# Altium footprint library PBL4_GR4_PcbLib.PcbLib: 35 footprints (part 2 of 3)
Each footprint in its own frame and in the unit in brackets; x right, y up, seen from the top. Pads: shape width x height; smd on the part's side, far side on the other; paste and mask are expansions set on the pad; w line width, h text height; cw(c..) or ccw(c..) is an arc to the next point about the centre after c.
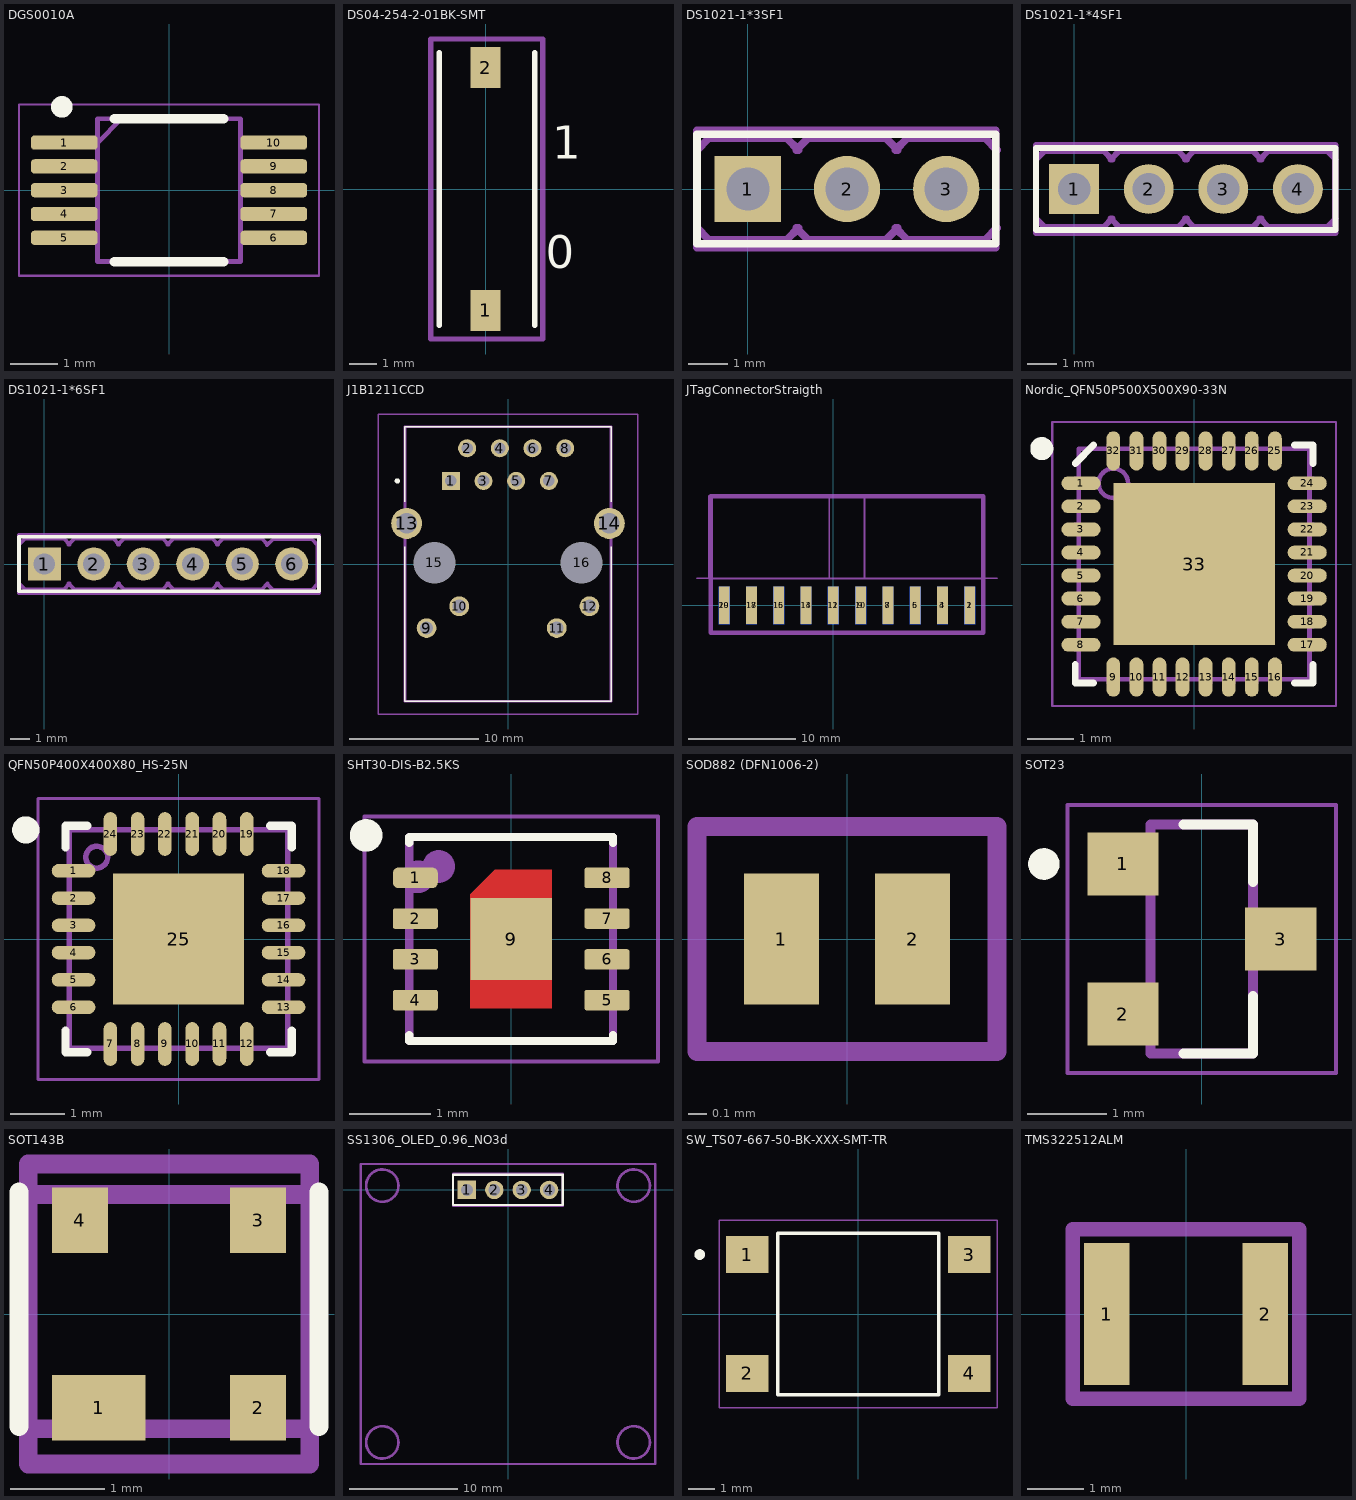
[diagram p1: the footprints below, top view; thin cyan lines are the x and y axes]

## DGS0010A [mm]
pads (10):
  rrect50% 1.4x0.3 smd: 1(-2.2,1) 2(-2.2,0.5) 3(-2.2,0) 4(-2.2,-0.5) 5(-2.2,-1) 6(2.2,-1) 7(2.2,-0.5) 8(2.2,0) 9(2.2,0.5) 10(2.2,1)
Top Overlay:
  circle w0.254: c-2.25,1.75 r0.1
  lines w0.2: -1.15,-1.5 1.15,-1.5 ; -1.15,1.5 1.15,1.5
Top Component Outline:
  lines w0.1: -1.5,1 -1,1.5 ; -1.5,-1.5 1.5,-1.5 1.5,1.5 -1.5,1.5 -1.5,-1.5
Top Assembly:
  lines w0.05: -3.15,-1.8 3.15,-1.8 3.15,1.8 -3.15,1.8 -3.15,-1.8
  text ".Designator" at -1.746,-0.596 h1.2
3D body "TMUX1072DGSR.stp": height 1.1, standoff 0, extent -2.463,-1.5 2.463,1.5

## DS04-254-2-01BK-SMT [mm] "1 Position, Surface Mount, 2.54 mm Pitch, Flat Slide Actuator, Flat Bottom, SMT Pin, DIP Switch"
pads (2):
  rect 1.1x1.5 smd: 1(0,-4.45) 2(0,4.45)
Top Overlay:
  lines w0.2: -1.7,-5 -1.7,5 ; 1.8,-5 1.8,5
  text "0" at 2.2,-2.9 h1.2
  text "1" at 2.45,1.1 h1.2
Top Assembly:
  lines w0.2: -2,-5.5 2.1,-5.5 2.1,5.5 -2,5.5 -2,-5.5
  text ".Designator" at 0.8,-1 h1.5
3D body "CUI_DEVICES_DS04-254-2-01BK-SMT.step": height 3.99, standoff -0.01, extent -1.715,-4.95 1.825,4.95

## DS1021-1*3SF1 [mm]
pads (3):
  rect 1.7x1.7 / inner rect 1.7x1.7 / far side rect 1.7x2.4 hole 1.1: 1(0,0)
  round 1.7 / inner round 1.7 / far side oval 1.7x2.4 hole 1.1: 2(2.54,0) 3(5.08,0)
Top Overlay:
  lines w0.2: -1.3,-1.4 -1.3,1.4 6.35,1.4 6.35,-1.4 -1.3,-1.4
Top Assembly:
  lines w0.2: -1.3,-1.5 6.35,-1.5 6.35,1.5 -1.3,1.5 -1.3,-1.5
  text ".Designator" at 1.27,-1.03 h2
  text "1" at -0.5,-0.8 h1.2
Additional Info:
  lines w0.2: 1.24,-1 1.54,-1.3 3.54,-1.3 3.84,-1 ; 1.24,1 1.54,1.3 3.54,1.3 3.84,1 ; 1.3,-1 1,-1.3 -1,-1.3 -1.3,-1 -1.3,1 -1,1.3 1,1.3 1.3,1 ; 3.78,-1 4.08,-1.3 6.08,-1.3 6.38,-1 ; 3.78,1 4.08,1.3 6.08,1.3 6.38,1 ; 6.35,-0.97 6.35,1.03
3D body "PLS-1.step": height 8.54, standoff -2.9, extent 3.81,-1.27 6.35,1.27
3D body "PLS-1.step": height 8.54, standoff -2.9, extent 1.27,-1.27 3.81,1.27
3D body "PLS-1.step": height 8.54, standoff -2.9, extent -1.27,-1.27 1.27,1.27

## DS1021-1*4SF1 [mm]
pads (4):
  rect 1.7x1.7 / inner rect 1.7x1.7 / far side rect 1.7x2.4 hole 1.1: 1(0,0)
  round 1.7 / inner round 1.7 / far side oval 1.7x2.4 hole 1.1: 2(2.54,0) 3(5.08,0) 4(7.62,0)
Top Overlay:
  lines w0.2: 8.89,1.4 -1.3,1.4 -1.3,-1.4 8.9,-1.4 8.9,1.4
Top Assembly:
  lines w0.2: -1.3,-1.5 8.9,-1.5 8.9,1.5 -1.3,1.5 -1.3,-1.5
  text ".Designator" at 2.225,-0.9 h2
  text "1" at -0.5,-0.8 h1.2
Additional Info:
  lines w0.2: 1.24,-1 1.54,-1.3 3.54,-1.3 3.84,-1 ; 1.24,1 1.54,1.3 3.54,1.3 3.84,1 ; 1.3,-1 1,-1.3 -1,-1.3 -1.3,-1 -1.3,1 -1,1.3 1,1.3 1.3,1 ; 3.78,-1 4.08,-1.3 6.08,-1.3 6.38,-1 ; 3.78,1 4.08,1.3 6.08,1.3 6.38,1 ; 6.32,-1 6.62,-1.3 8.62,-1.3 8.92,-1 ; 6.32,1 6.62,1.3 8.62,1.3 8.92,1 ; 8.885,-1 8.885,1
3D body "PLS-1.step": height 8.54, standoff -2.9, extent 6.35,-1.27 8.89,1.27
3D body "PLS-1.step": height 8.54, standoff -2.9, extent 3.81,-1.27 6.35,1.27
3D body "PLS-1.step": height 8.54, standoff -2.9, extent 1.27,-1.27 3.81,1.27
3D body "PLS-1.step": height 8.54, standoff -2.9, extent -1.27,-1.27 1.27,1.27

## DS1021-1*6SF1 [mm]
pads (6):
  rect 1.7x1.7 / inner rect 1.7x1.7 / far side rect 1.7x2.4 hole 1.1: 1(0,0)
  round 1.7 / inner round 1.7 / far side oval 1.7x2.4 hole 1.1: 2(2.54,0) 3(5.08,0) 4(7.62,0) 5(10.16,0) 6(12.7,0)
Top Overlay:
  lines w0.2: -1.3,-1.4 14.097,-1.4 14.097,1.4 -1.3,1.4 -1.3,-1.4
Top Assembly:
  lines w0.2: -1.3,-1.5 -1.3,1.5 14.097,1.5 14.097,-1.5 -1.3,-1.5
  text "1" at -0.5,-0.8 h1.2
  text ".Designator" at 3.8,-0.9 h2
Additional Info:
  lines w0.2: 1.24,-1 1.54,-1.3 3.54,-1.3 3.84,-1 ; 1.24,1 1.54,1.3 3.54,1.3 3.84,1 ; 1.3,-1 1,-1.3 -1,-1.3 -1.3,-1 -1.3,1 -1,1.3 1,1.3 1.3,1 ; 3.78,-1 4.08,-1.3 6.08,-1.3 6.38,-1 ; 3.78,1 4.08,1.3 6.08,1.3 6.38,1 ; 6.32,-1 6.62,-1.3 8.62,-1.3 8.92,-1 ; 6.32,1 6.62,1.3 8.62,1.3 8.92,1 ; 8.86,-1 9.16,-1.3 11.16,-1.3 11.46,-1 ; 8.86,1 9.16,1.3 11.16,1.3 11.46,1 ; 11.43,-1.03 11.73,-1.33 13.73,-1.33 14.03,-1.03 14.03,0.97 13.73,1.27 11.73,1.27 11.43,0.97
3D body "PLS-1.step": height 8.54, standoff -2.9, extent 11.43,-1.27 13.97,1.27
3D body "PLS-1.step": height 8.54, standoff -2.9, extent -1.27,-1.27 1.27,1.27
3D body "PLS-1.step": height 8.54, standoff -2.9, extent 1.27,-1.27 3.81,1.27
3D body "PLS-1.step": height 8.54, standoff -2.9, extent 3.81,-1.27 6.35,1.27
3D body "PLS-1.step": height 8.54, standoff -2.9, extent 6.35,-1.27 8.89,1.27
3D body "PLS-1.step": height 8.54, standoff -2.9, extent 8.89,-1.27 11.43,1.27

## J1B1211CCD [mm]
height 13.35
pads (16):
  rect 1.4x1.4 hole 0.9: 1(-4.445,6.45)
  round 1.4 hole 0.9: 2(-3.175,8.99) 3(-1.905,6.45) 4(-0.635,8.99) 5(0.635,6.45) 6(1.905,8.99) 7(3.175,6.45) 8(4.445,8.99)
  round 1.53 hole 1.02: 9(-6.325,-4.98) 10(-3.785,-3.28) 11(3.785,-4.98) 12(6.325,-3.28)
  round 2.4 hole 1.6: 13(-7.875,3.15) 14(7.875,3.15)
  round 1.625 hole 3.25 unplated: 15(-5.715,0.1) 16(5.715,0.1)
Top Overlay:
  lines w0.1: -8,1.35 -8,-10.65 8,-10.65 8,1.35 ; -8,4.85 -8,10.65 8,10.65 8,4.85
  lines w0.2: -8.6,6.35 ccw(c-8.6,6.45) -8.6,6.55 ccw(c-8.6,6.45) -8.6,6.35
Top Component Outline:
  lines w0.2: -8,-10.65 -8,10.65 8,10.65 8,-10.65 -8,-10.65
Top Assembly:
  lines w0.1: -10.075,-11.65 -10.075,11.65 10.075,11.65 10.075,-11.65 -10.075,-11.65
3D body "J1B1211CCD.stp": height 14.93, standoff -3.86, extent -9.534,-10.566 9.454,10.71

## JTagConnectorStraigth [mm]
pads (20):
  rect 1x3.5 smd: 1(12.7,0) 3(10.16,0) 5(7.62,0) 7(5.08,0) 9(2.54,0) 11(0,0) 13(-2.54,0) 15(-5.08,0) 17(-7.62,0) 19(-10.16,0)
  rect 1x3.5 smd far side: 2(12.7,0) 4(10.16,0) 6(7.62,0) 8(5.08,0) 10(2.54,0) 12(0,0) 14(-2.54,0) 16(-5.08,0) 18(-7.62,0) 20(-10.16,0)
Top Assembly:
  lines w0.4: -11.43,-2.54 -11.43,10.16 13.97,10.16 13.97,-2.54 -11.43,-2.54
  text ".Designator" at -1.27,5.08 h1.5
Additional Info:
  lines w0.15: -11.6,2.5 -11.6,10.2 14.1,10.2 14.1,2.5 -11.6,2.5 ; -0.401,2.5 2.901,2.5 2.901,10.25 -0.401,10.25 -0.401,2.5
Mechanical 15:
  lines w0.15: -12.7,2.54 15.24,2.54
  text "Connector outsied the board.  / Use at lest 1.6 mm thick board" at -11.43,3.81 h1.5
3D body "User Library-Header 2x10 2_54mm.step": height 1.7, standoff -3.3, extent -11.58,-0.94 14.12,10.16

## Nordic_QFN50P500X500X90-33N [mm]
pads (33):
  oval 0.85x0.3 smd mask+0.076: 1(-2.45,1.75) 2(-2.45,1.25) 3(-2.45,0.75) 4(-2.45,0.25) 5(-2.45,-0.25) 6(-2.45,-0.75) 7(-2.45,-1.25) 8(-2.45,-1.75) 17(2.45,-1.75) 18(2.45,-1.25) 19(2.45,-0.75) 20(2.45,-0.25) 21(2.45,0.25) 22(2.45,0.75) 23(2.45,1.25) 24(2.45,1.75)
  oval 0.3x0.85 smd mask+0.076: 9(-1.75,-2.45) 10(-1.25,-2.45) 11(-0.75,-2.45) 12(-0.25,-2.45) 13(0.25,-2.45) 14(0.75,-2.45) 15(1.25,-2.45) 16(1.75,-2.45) 25(1.75,2.45) 26(1.25,2.45) 27(0.75,2.45) 28(0.25,2.45) 29(-0.25,2.45) 30(-0.75,2.45) 31(-1.25,2.45) 32(-1.75,2.45)
  rect 3.5x3.5 smd: 33(0,0)
Top Overlay:
  circle w0.25: c-3.3,2.5 r0.125
  lines w0.15: -2.575,-2.175 -2.575,-2.575 -2.175,-2.575 ; -2.575,2.175 -2.175,2.575 ; 2.175,-2.575 2.575,-2.575 2.575,-2.175 ; 2.175,2.575 2.575,2.575 2.575,2.175
Top Component Outline:
  circle w0.1: c-1.75,1.75 r0.32
  lines w0.1: -2.5,-1.845 -2.571,-1.845 cw(c-2.571,-1.75) -2.571,-1.655 -2.5,-1.655 ; -2.5,-1.345 -2.571,-1.345 cw(c-2.571,-1.25) -2.571,-1.155 -2.5,-1.155 ; -2.5,-0.845 -2.571,-0.845 cw(c-2.571,-0.75) -2.571,-0.655 -2.5,-0.655 ; -2.5,-0.345 -2.571,-0.345 cw(c-2.571,-0.25) -2.571,-0.155 -2.5,-0.155 ; -2.5,0.155 -2.571,0.155 cw(c-2.571,0.25) -2.571,0.345 -2.5,0.345 ; -2.5,0.655 -2.571,0.655 cw(c-2.571,0.75) -2.571,0.845 -2.5,0.845 ; -2.5,1.155 -2.571,1.155 cw(c-2.571,1.25) -2.571,1.345 -2.5,1.345 ; -2.5,1.655 -2.571,1.655 cw(c-2.571,1.75) -2.571,1.845 -2.5,1.845 ; -1.845,-2.5 -1.845,-2.571 ccw(c-1.75,-2.571) -1.655,-2.571 -1.655,-2.5 ; -1.845,2.5 -1.845,2.571 cw(c-1.75,2.571) -1.655,2.571 -1.655,2.5 ; -1.345,-2.5 -1.345,-2.571 ccw(c-1.25,-2.571) -1.155,-2.571 -1.155,-2.5 ; -1.345,2.5 -1.345,2.571 cw(c-1.25,2.571) -1.155,2.571 -1.155,2.5 ; -0.845,-2.5 -0.845,-2.571 ccw(c-0.75,-2.571) -0.655,-2.571 -0.655,-2.5 ; -0.845,2.5 -0.845,2.571 cw(c-0.75,2.571) -0.655,2.571 -0.655,2.5 ; -0.345,-2.5 -0.345,-2.571 ccw(c-0.25,-2.571) -0.155,-2.571 -0.155,-2.5 ; -0.345,2.5 -0.345,2.571 cw(c-0.25,2.571) -0.155,2.571 -0.155,2.5 ; 0.155,-2.5 0.155,-2.571 ccw(c0.25,-2.571) 0.345,-2.571 0.345,-2.5 ; 0.155,2.5 0.155,2.571 cw(c0.25,2.571) 0.345,2.571 0.345,2.5 ; 0.655,-2.5 0.655,-2.571 ccw(c0.75,-2.571) 0.845,-2.571 0.845,-2.5 ; 0.655,2.5 0.655,2.571 cw(c0.75,2.571) 0.845,2.571 0.845,2.5 ; 1.155,-2.5 1.155,-2.571 ccw(c1.25,-2.571) 1.345,-2.571 1.345,-2.5 ; 1.155,2.5 1.155,2.571 cw(c1.25,2.571) 1.345,2.571 1.345,2.5 ; 1.655,-2.5 1.655,-2.571 ccw(c1.75,-2.571) 1.845,-2.571 1.845,-2.5 ; 1.655,2.5 1.655,2.571 cw(c1.75,2.571) 1.845,2.571 1.845,2.5 ; 2.5,-1.845 2.571,-1.845 ccw(c2.571,-1.75) 2.571,-1.655 2.5,-1.655 ; 2.5,-1.345 2.571,-1.345 ccw(c2.571,-1.25) 2.571,-1.155 2.5,-1.155 ; 2.5,-0.845 2.571,-0.845 ccw(c2.571,-0.75) 2.571,-0.655 2.5,-0.655 ; 2.5,-0.345 2.571,-0.345 ccw(c2.571,-0.25) 2.571,-0.155 2.5,-0.155 ; 2.5,0.155 2.571,0.155 ccw(c2.571,0.25) 2.571,0.345 2.5,0.345 ; 2.5,0.655 2.571,0.655 ccw(c2.571,0.75) 2.571,0.845 2.5,0.845 ; 2.5,1.155 2.571,1.155 ccw(c2.571,1.25) 2.571,1.345 2.5,1.345 ; 2.5,1.655 2.571,1.655 ccw(c2.571,1.75) 2.571,1.845 2.5,1.845 ; -2.5,-2.5 -2.5,2.5 2.5,2.5 2.5,-2.5 -2.5,-2.5
Top Assembly:
  lines w0.05: -3.075,-3.075 3.075,-3.075 3.075,3.075 -3.075,3.075 -3.075,-3.075
  text ".Designator" at -0.879,-0.131 h0.38
3D body "QFN50P500X500X90_HS-33N.step": height 0.9, standoff 0, extent -2.501,-2.501 2.501,2.501

## QFN50P400X400X80_HS-25N [mm]
pads (25):
  oval 0.8x0.25 smd: 1(-1.925,1.25) 2(-1.925,0.75) 3(-1.925,0.25) 4(-1.925,-0.25) 5(-1.925,-0.75) 6(-1.925,-1.25) 13(1.925,-1.25) 14(1.925,-0.75) 15(1.925,-0.25) 16(1.925,0.25) 17(1.925,0.75) 18(1.925,1.25)
  oval 0.25x0.8 smd: 7(-1.25,-1.925) 8(-0.75,-1.925) 9(-0.25,-1.925) 10(0.25,-1.925) 11(0.75,-1.925) 12(1.25,-1.925) 19(1.25,1.925) 20(0.75,1.925) 21(0.25,1.925) 22(-0.25,1.925) 23(-0.75,1.925) 24(-1.25,1.925)
  rect 2.4x2.4 smd: 25(0,0)
Top Overlay:
  circle w0.25: c-2.8,2 r0.125
  lines w0.15: -2.075,-1.675 -2.075,-2.075 -1.675,-2.075 ; -2.075,1.675 -2.075,2.075 -1.675,2.075 ; 1.675,-2.075 2.075,-2.075 2.075,-1.675 ; 1.675,2.075 2.075,2.075 2.075,1.675
Top Component Outline:
  circle w0.1: c-1.5,1.5 r0.2
  lines w0.1: -2,-2 2,-2 ; -2,-2 -2,2 ; -2,-2 2,-2 ; -2,-2 -2,2 ; -2,2 2,2 ; -2,2 2,2 ; 2,-2 2,2 ; 2,-2 2,2
Top Assembly:
  lines w0.05: -2.575,-2.575 -2.575,2.575 2.575,2.575 2.575,-2.575 -2.575,-2.575
  text ".Designator" at -0.654,-0.127 h0.38
3D body "QFN50P400X400X80_HS-25N.step": height 0.8, standoff 0, extent -2.001,-2.001 2.001,2.001

## SHT30-DIS-B2.5KS [mm]
height 0.9
pads (9):
  rrect50% 0.55x0.25 smd mask+0: 1(-1.175,0.75)
  rrect20% 0.55x0.25 smd mask+0: 2(-1.175,0.25) 3(-1.175,-0.25) 4(-1.175,-0.75) 5(1.175,-0.75) 6(1.175,-0.25) 7(1.175,0.25) 8(1.175,0.75)
  rect 1x1 smd paste-1 mask+0: 9(0,0)
Top Layer:
  region: 0.5,-0.85 -0.5,-0.85 -0.5,0.55 -0.2,0.85 0.5,0.85
Top Overlay:
  circle w0.2: c-1.778,1.27 r0.1
  lines w0.1: -1.25,-1.175 -1.25,-1.25 1.25,-1.25 1.25,-1.175 ; -1.25,1.175 -1.25,1.25 1.25,1.25 1.25,1.175
Top Paste:
  region: 0.4,-0.75 -0.4,-0.75 -0.4,0.45 -0.1,0.75 0.4,0.75
Top Solder:
  drawing of 9 lines, arcs and shapes, not listed
Top Component Outline:
  circle w0.2: c-0.889,0.889 r0.1
  lines w0.1: -1.25,-1.25 -1.25,1.25 1.25,1.25 1.25,-1.25 -1.25,-1.25
Top Assembly:
  circle w0.2: c-1.143,0.762 r0.1
  lines w0.05: -1.8,-1.5 -1.8,1.5 1.8,1.5 1.8,-1.5 -1.8,-1.5
3D body "SHT30-DIS-B2.5KS.step": height 0.9, standoff 0, extent -1.251,-1.251 1.251,1.251

## SOD882 (DFN1006-2) [mm]
pads (2):
  rect 0.4x0.7 smd: 1(-0.35,0) 2(0.35,0)
Top Assembly:
  lines w0.1: -0.8,-0.6 -0.8,0.6 0.8,0.6 0.8,-0.6 -0.8,-0.6
  text ".Designator" at -0.375,-0.1 h0.5
3D body "User Library-SOD882.step": height 0.48, standoff -0.02, extent -0.511,-0.311 0.511,0.311

## SOT23 [mm]
height 1.2
pads (3):
  rect 0.9x0.8 smd: 1(-1,0.95) 2(-1,-0.95) 3(1,0)
Top Overlay:
  circle w0.2: c-2,0.95 r0.1
  lines w0.127: -0.23,-1.45 0.65,-1.45 0.65,-0.72 ; -0.23,1.45 0.65,1.45 0.65,0.72
Top Component Outline:
  lines w0.127: -0.65,-1.45 0.65,-1.45 0.65,1.45 -0.65,1.45 -0.65,-1.45
Top Assembly:
  lines w0.05: -1.7,-1.7 1.7,-1.7 1.7,1.7 -1.7,1.7 -1.7,-1.7
  text ".Designator" at -0.889,-0.48 h1.5
3D body "step_temp.STEP": height 1.3, standoff 0, extent -1.3,-1.525 1.3,1.515

## SOT143B [mm]
pads (4):
  rect 1x0.7 smd: 1(-0.75,-1)
  rect 0.6x0.7 smd: 2(0.95,-1) 3(0.95,1) 4(-0.95,1)
Top Overlay:
  lines w0.2: -1.6,-1.2 -1.6,1.3 ; 1.6,-1.2 1.6,1.3
Top Component Outline:
  lines w0.2: -1.5,-1.225 1.5,-1.225 1.5,1.275 -1.5,1.275 -1.5,-1.225
Top Assembly:
  lines w0.2: -1.5,-1.6 1.5,-1.6 1.5,1.6 -1.5,1.6 -1.5,-1.6
  text ".Designator" at -0.9,-0.218 h1.5
3D body "User Library-SOT143_1.step": height 1, standoff -0.1, extent -1.5,-1.225 1.5,1.275

## SS1306_OLED_0.96_NO3d [mm]
pads (4):
  rect 1.7x1.7 / inner rect 1.7x1.7 / far side rect 1.7x2.4 hole 1.1: 1(-3.81,0)
  round 1.7 / inner round 1.7 / far side oval 1.7x2.4 hole 1.1: 2(-1.27,0) 3(1.27,0) 4(3.81,0)
Top Overlay:
  lines w0.2: -5.11,-1.4 5.08,-1.4 5.08,1.4 -5.11,1.4 -5.11,-1.4
Top Assembly:
  lines w0.2: -5.11,-1.5 -5.11,1.5 5.08,1.5 5.08,-1.5 -5.11,-1.5
  text "1" at -4.31,-0.8 h1.2
  text ".Designator" at -0.01,-0.9 h2
Additional Info:
  circle w0.254: c11.65,0.4 r1.5
  circle w0.254: c-11.65,0.4 r1.5
  circle w0.254: c-11.65,-23.4 r1.5
  circle w0.254: c11.65,-23.4 r1.5
  lines w0.2: -13.65,-25.4 13.65,-25.4 13.65,2.4 -13.65,2.4 -13.65,-25.4

## SW_TS07-667-50-BK-XXX-SMT-TR [mm]
height 2.7
pads (4):
  rect 1.6x1.4 smd: 1(-4.2,2.25) 2(-4.2,-2.25) 3(4.2,2.25) 4(4.2,-2.25)
Top Overlay:
  circle w0.2: c-6,2.25 r0.1
  circle w0.2: c-6,2.25 r0.1
  lines w0.127: -3.05,-3.05 3.05,-3.05 3.05,3.05 -3.05,3.05 -3.05,-3.05
Bottom Component Outline:
  lines w0.05: -5.25,-3.55 -5.25,3.55 5.25,3.55 5.25,-3.55 -5.25,-3.55
3D body "step_temp.STEP": height 5, standoff -0.1, extent -4.2,-3.3 4.2,3.3

## TMS322512ALM [mm]
pads (2):
  rect 0.8x2.5 smd: 1(-1.4,0) 2(1.4,0)
Top Assembly:
  lines w0.254: -2,-1.5 2,-1.5 2,1.5 -2,1.5 -2,-1.5
  text ".Designator" at -1.246,-0.546 h1.2
3D body: height 1.2, standoff 0, extent -1.6,-1.25 1.6,1.25